# Altium footprint library SAMTEC_TW-02-03-T-D-335-100.PcbLib: 1 footprints
Each footprint in its own frame and in the unit in brackets; x right, y up, seen from the top. Pads: shape width x height; smd on the part's side, far side on the other; paste and mask are expansions set on the pad; w line width, h text height; cw(c..) or ccw(c..) is an arc to the next point about the centre after c.
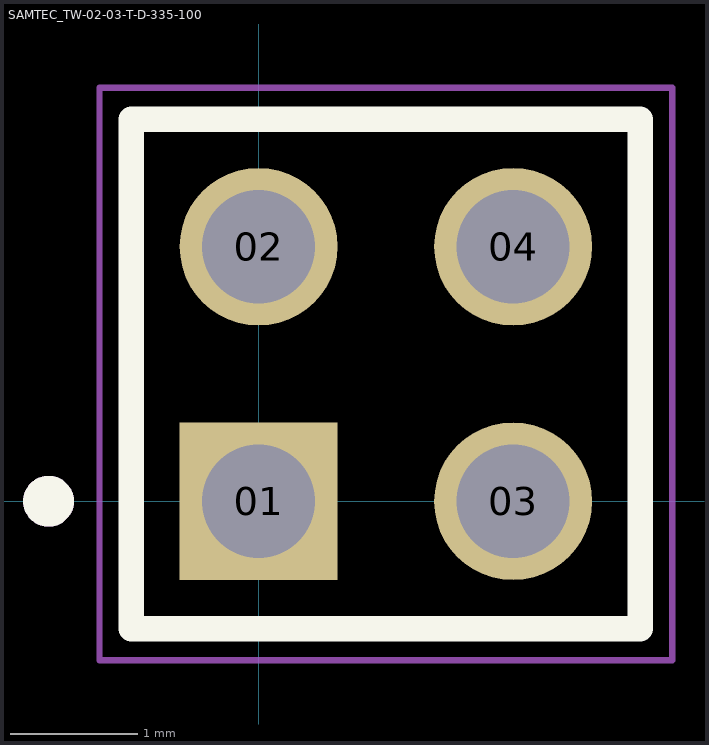
[diagram p0: the footprint, top view; thin cyan lines are the x and y axes]

## SAMTEC_TW-02-03-T-D-335-100 [mm]
pads (4):
  rect 1.24x1.24 hole 0.89: 01(0,0)
  round 1.24 hole 0.89: 02(0,2) 03(2,0) 04(2,2)
Top Overlay:
  circle w0.2: c-1.65,0 r0.1
  lines w0.2: -1,-1 3,-1 3,3 -1,3 -1,-1
Mechanical 13:
  circle w0.2: c-1.65,0 r0.1
  lines w0.1: -1,-1 -1,3 ; -1,-1 3,-1 ; -1,-1 -1,3 ; -1,3 3,3 ; -1,3 3,3 ; 3,-1 3,3 ; 3,-1 3,3
Mechanical 15:
  lines w0.05: -1.25,-1.25 3.25,-1.25 3.25,3.25 -1.25,3.25 -1.25,-1.25
3D body "TW-02-03-T-D-335-100.stp": height 4.57, standoff -9.02, extent -0.984,-0.983 3.016,3.015